# EAGLE library part BME280 (library DensityAltitude)
BOSCH BME280 Combined humidity and pressure sensor Web page: http://www.bosch-sensortec.com/en/homepage/products_3/environmental_sensors_1/bme280/bme280_1 Datasheet: http://ae-bst.resource.bosch.com/media/products/dokumente/bme280/BST-BME280_DS001-09.pdf The BME280 is an integrated environmental sensor developed specifically for mobile applications where size and low power consumption are key design constraints. The unit combines individual high linearity, high accuracy sensors for pressure, humidity and temperature in an 8-pin metal-lid 2.5 x 2.5 x 0.93 mm3 LGA package, designed for low current consumption (3.6 μA @1Hz), long term stability and high EMC robustness. The humidity sensor features an extremely fast response time which supports performance requirements for emerging applications such as context awareness, and high accuracy over a wide temperature range. The pressure sensor is an absolute barometric pressure sensor with features exceptionally high accuracy and resolution at very low noise. The integrated temperature sensor has been optimized for very low noise and high resolution. It is primarily used for temperature compensation of the pressure and humidity sensors, and can also be used for estimating ambient temperature. The BME280 supports a full suite of operating modes which provides the flexibility to optimize the device for power consumption, resolution and filter performance. Key features: - Temperature measurement included - I2C and SPI interfaces - Fully calibrated - Pb-free, halogen-free and RoHS compliant, - MSL 1 Basic specs: Pressure range: 300 to 1100hPa (+9000m to -500m relating to sea level) Supply voltage: 1.71 to 3.6V (VDD), 1.2V to 3.6V (VDDIO) Package: LGA package with metal lid Small footprint: 2.5mm x 2.5mm Super-flat: 0.93mm height Low power: 3.6μA at 1 sample / sec. in standard mode (humidity, pressure and temperature) Low noise: 0.06hPa (0.5m) in ultra low power mode, 0.02hPa (0.17m) advanced resolution mode Typical applications: - Context awareness, e.g. skin detection, room change detection - Health monitoring / well-being • Warning regarding dehydration or heat stroke • Measurement of lung volume and air flow - Home automation control • Control heating, ventilation, air conditioning (HVAC) - Internet of things - GPS enhancement (e.g. time-to-first-fix improvement, dead reckoning, slope detection) - Indoor navigation (change of floor detection, elevator detection) - Outdoor navigation, leisure and sports applications - Weather forecast - Vertical velocity indication (rise/sink speed)
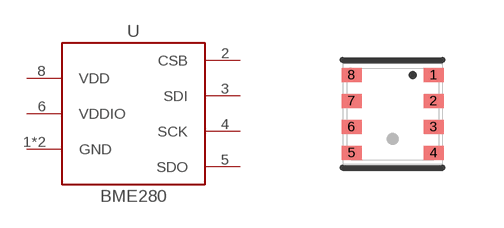
[diagram p2: symbol with the pads of BME280; footprint BME280]

Designator prefix U

## BME280  [BME280]
1  GND  pas
2  CSB  in
3  SDI
4  SCK  in
5  SDO
6  VDDIO  pwr
7  GND  pas
8  VDD  pwr

## Footprint BME280 (pad centres in mm)
smd 0.5 x 0.35: 1 1.025,0.975; 2 1.025,0.325; 3 1.025,-0.325; 4 1.025,-0.975; 5 -1.025,-0.975; 6 -1.025,-0.325; 7 -1.025,0.325; 8 -1.025,0.975